# EAGLE library part MP2480DN (library MP2480)
MP2480 – 36V INPUT, 3A HIGH POWER LED DRIVER MPN: MP2480 <https://www.monolithicpower.com/en/documentview/productdocument/index/version/2/document_type/Datasheet/lang/en/sku/MP2480/document_id/2024/> Designed by AKstudios github.com/akstudios
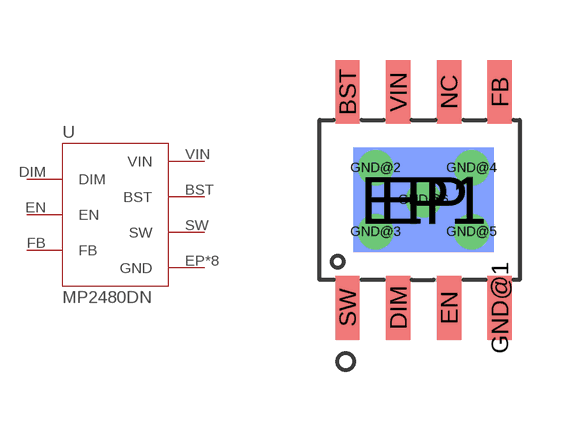
[diagram p0: symbol with the pads of SOIC8-EP; footprint SOIC8-EP]

Designator prefix -

## MP2480DN  [SOIC8-EP]
BST  BST
DIM  DIM
EN  EN
EP  GND
EP1  GND
FB  FB
GND@1  GND
GND@2  GND
GND@3  GND
GND@4  GND
GND@5  GND
GND@6  GND
SW  SW
VIN  VIN

## Footprint SOIC8-EP (pad centres in mm)
smd 0.61 x 1.6: BST -1.905,2.7; DIM -0.635,-2.7; EN 0.635,-2.7; FB 1.905,2.7; GND@1 1.905,-2.7; NC 0.635,2.7; SW -1.905,-2.7; VIN -0.635,2.7
smd 3.51 x 2.62: EP 0,0
smd 3.51 x 2.62 bottom: EP1 0,0
drill 0.381: GND@2 -1.2,0.8; GND@3 -1.2,-0.8; GND@4 1.2,0.8; GND@5 1.2,-0.8; GND@6 0,0